# EAGLE library part VL53L0 (library Bits_library_eagle 9x)
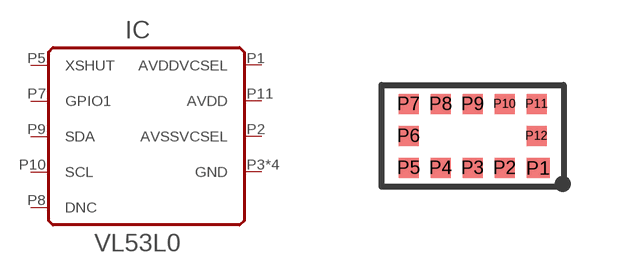
[diagram p81: symbol with the pads of VL53L0; footprint VL53L0]

Designator prefix IC

## VL53L0  [VL53L0]
P1  AVDDVCSEL  pwr
P2  AVSSVCSEL  pwr
P3  GND  pwr
P4  GND  pwr
P5  XSHUT
P6  GND  pwr
P7  GPIO1
P8  DNC  nc
P9  SDA
P10  SCL
P11  AVDD  pwr
P12  GND  pwr

## Footprint VL53L0 (pad centres in mm)
smd 0.58 x 0.5: P1 0.04,0
smd 0.5 x 0.5: P2 -0.8,0; P3 -1.6,0; P4 -2.4,0; P5 -3.2,0; P6 -3.2,0.8; P7 -3.2,1.6; P8 -2.4,1.6; P9 -1.6,1.6; P10 -0.8,1.6; P11 0,1.6; P12 0,0.8